# Altium schematic symbol library KP303.SchLib: 2 symbols
Pins are listed as number, name and electrical type; pins without a type are passive.

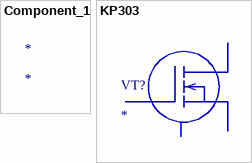
[diagram p0: symbols Component_1 to KP303]

## Component_1
designator *

## KP303
designator VT?
footprint KP303
3D model Model Name (PCB3D Model)
pins: 1 G, 2 S, 3 5, 4 D